# Altium integrated library BEC1.IntLib: 1 symbol
Pins are listed as number, name and electrical type; pins without a type are passive.

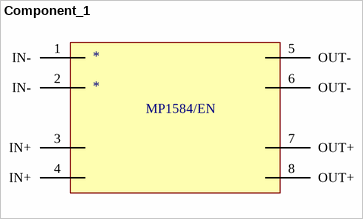
[diagram p0: symbol Component_1]

## Component_1
designator *
footprint PCBComponent_1
pins: 1 IN-, 2 IN-, 3 IN+, 4 IN+, 5 OUT-, 6 OUT-, 7 OUT+, 8 OUT+
text: MP1584/EN